# Altium footprint library Copter.PcbLib: 23 footprints (part 2 of 2)
Each footprint in its own frame and in the unit in brackets; x right, y up, seen from the top. Pads: shape width x height; smd on the part's side, far side on the other; paste and mask are expansions set on the pad; w line width, h text height; cw(c..) or ccw(c..) is an arc to the next point about the centre after c.
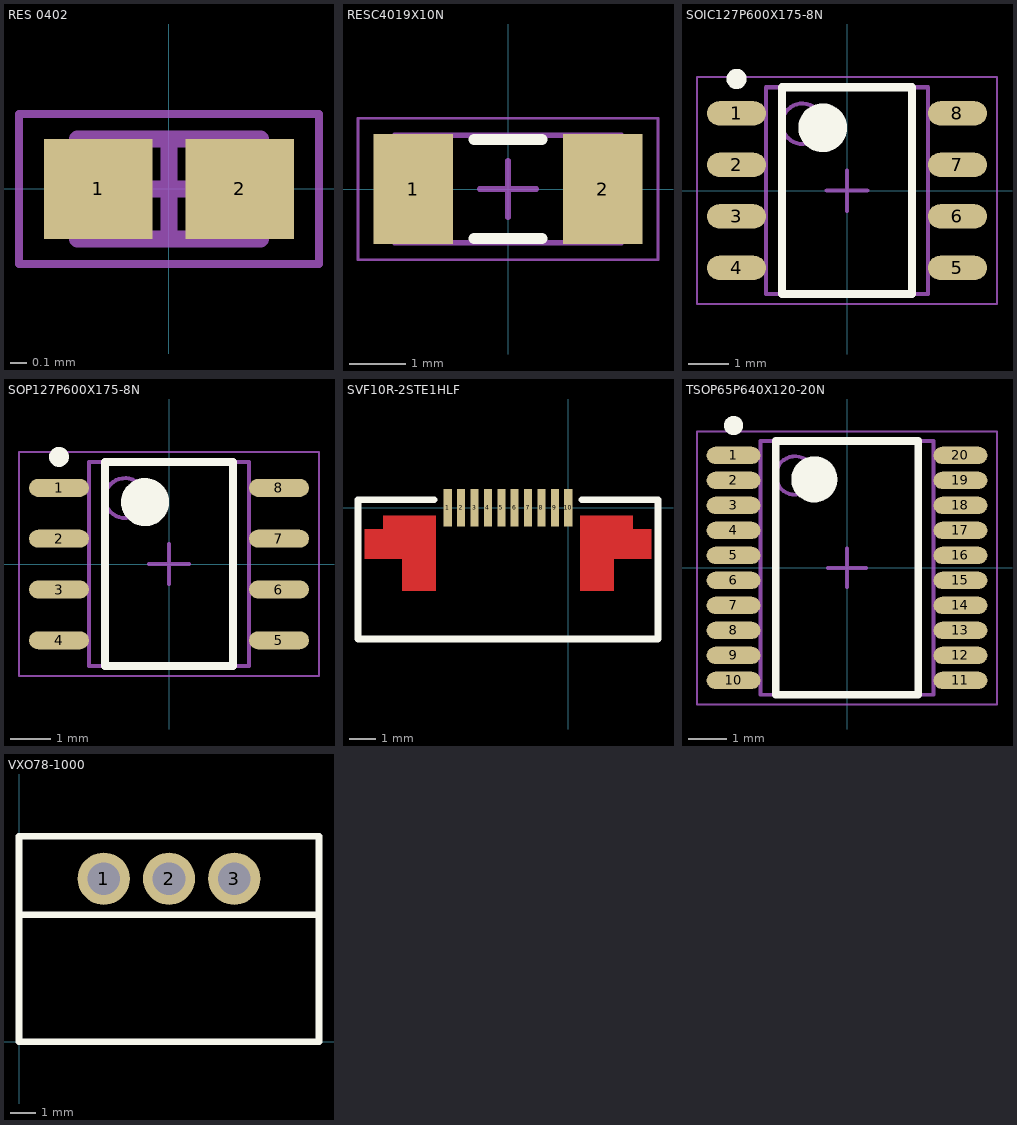
[diagram p1: the footprints below, top view; thin cyan lines are the x and y axes]

## RES 0402 [mm] "Chip Resistor, 2-Leads, Body 1.00x0.50mm, IPC Medium Density"
height 0.4
pads (2):
  rect 0.65x0.6 smd: 1(-0.425,0) 2(0.425,0)
Mechanical 13:
  lines w0.1: -0.55,-0.3 -0.55,0.3 0.55,0.3 0.55,-0.3 -0.55,-0.3
Mechanical 15:
  lines w0.05: -0.9,-0.45 -0.9,0.45 0.9,0.45 0.9,-0.45 -0.9,-0.45
  lines w0.1: -0.3,0 0.3,0 ; 0,-0.3 0,0.3
3D body: height 0.4, standoff 0, extent -0.3,-0.3 0.3,0.3
3D body: height 0.4, standoff 0, extent -0.55,-0.3 -0.3,0.3
3D body: height 0.4, standoff 0, extent 0.3,-0.3 0.55,0.3

## RESC4019X10N [mm] "Chip Resistor, 2-Leads, Body 4.00x1.90mm, IPC Medium Density"
height 1
pads (2):
  rect 1.4x1.95 smd: 1(-1.675,0) 2(1.675,0)
Top Overlay:
  lines w0.2: -0.6,-0.875 0.6,-0.875 ; -0.6,0.875 0.6,0.875
Mechanical 13:
  lines w0.1: -2,-0.95 -2,0.95 2,0.95 2,-0.95 -2,-0.95
Mechanical 15:
  lines w0.05: -2.65,-1.25 -2.65,1.25 2.65,1.25 2.65,-1.25 -2.65,-1.25
  lines w0.1: -0.5,0 0.5,0 ; 0,-0.5 0,0.5
3D body: height 1, standoff 0, extent -1,-0.95 1,0.95
3D body: height 1, standoff 0, extent -2,-0.95 -1,0.95
3D body: height 1, standoff 0, extent 1,-0.95 2,0.95

## SOIC127P600X175-8N [mm] "SOIC, 8-Leads, Body 4.93x3.90mm, Pitch 1.27mm, IPC Medium Density"
height 1.75
pads (8):
  oval 1.45x0.6 smd: 1(-2.725,1.905) 2(-2.725,0.635) 3(-2.725,-0.635) 4(-2.725,-1.905) 5(2.725,-1.905) 6(2.725,-0.635) 7(2.725,0.635) 8(2.725,1.905)
Top Overlay:
  circle w0.6: c-0.6,1.55 r0.3
  circle w0.25: c-2.725,2.755 r0.125
  lines w0.2: -1.6,-2.55 1.6,-2.55 1.6,2.55 -1.6,2.55 -1.6,-2.55
Mechanical 13:
  circle w0.1: c-1.1,1.65 r0.5
  lines w0.1: -2,-2.55 2,-2.55 2,2.55 -2,2.55 -2,-2.55
Mechanical 15:
  lines w0.05: -3.7,-2.8 3.7,-2.8 3.7,2.8 -3.7,2.8 -3.7,-2.8
  lines w0.1: -0.5,0 0.5,0 ; 0,-0.5 0,0.5
3D body: height 1.75, standoff 0.25, extent -2,-2.55 2,2.55

## SOP127P600X175-8N [mm] "SOP, 8-Leads, Body 4.90x3.90mm, Pitch 1.27mm, IPC Medium Density"
height 1.75
pads (8):
  oval 1.5x0.45 smd: 1(-2.75,1.905) 2(-2.75,0.635) 3(-2.75,-0.635) 4(-2.75,-1.905) 5(2.75,-1.905) 6(2.75,-0.635) 7(2.75,0.635) 8(2.75,1.905)
Top Overlay:
  circle w0.6: c-0.6,1.55 r0.3
  circle w0.25: c-2.75,2.68 r0.125
  lines w0.2: -1.6,-2.55 1.6,-2.55 1.6,2.55 -1.6,2.55 -1.6,-2.55
Mechanical 13:
  circle w0.1: c-1.1,1.65 r0.5
  lines w0.1: -2,-2.55 2,-2.55 2,2.55 -2,2.55 -2,-2.55
Mechanical 15:
  lines w0.05: -3.75,-2.8 3.75,-2.8 3.75,2.8 -3.75,2.8 -3.75,-2.8
  lines w0.1: -0.5,0 0.5,0 ; 0,-0.5 0,0.5
3D body: height 1.75, standoff 0.1, extent -2,-2.55 2,2.55

## SVF10R-2STE1HLF [mm]
pads (10):
  rect 0.3x1.4 smd mask+0.05: 1(-4.5,0) 2(-4,0) 3(-3.5,0) 4(-3,0) 5(-2.5,0) 6(-2,0) 7(-1.5,0) 8(-1,0) 9(-0.5,0) 10(0,0)
Top Layer:
  region: -4.95,-3.1 -6.2,-3.1 -6.2,-1.9 -7.6,-1.9 -7.6,-0.8 -6.9,-0.8 -6.9,-0.3 -4.95,-0.3
  region: 0.45,-3.1 1.7,-3.1 1.7,-1.9 3.1,-1.9 3.1,-0.8 2.4,-0.8 2.4,-0.3 0.45,-0.3
Top Overlay:
  region: -3.489,-3.798
  region: -3.299,-4.052
  region: -4.95,-3.1
  region: -4.95,-3.1
  lines w0.254: -5,0.3 -7.85,0.3 -7.85,-4.9 -7.65,-4.9 3.35,-4.9 3.35,0.3 0.5,0.3
Top Solder:
  region: 0.45,-3.1 1.7,-3.1 1.7,-1.9 3.1,-1.9 3.1,-0.8 2.4,-0.8 2.4,-0.3 0.45,-0.3
  region: -4.95,-3.1 -6.2,-3.1 -6.2,-1.9 -7.6,-1.9 -7.6,-0.8 -6.9,-0.8 -6.9,-0.3 -4.95,-0.3
3D body: height 3.25, standoff -3.1, extent -2.25,-1.9 -2.25,-1.9
3D body "ssfv10r_2stlf.stp": height 1.82, standoff -0.05, extent -7.5,-4.6 3,0.3

## TSOP65P640X120-20N [mm] "TSOP, 20-Leads, Body 6.50x4.40mm, Pitch 0.65mm, IPC Medium Density"
height 1.2
pads (20):
  oval 1.4x0.45 smd: 1(-2.95,2.925) 2(-2.95,2.275) 3(-2.95,1.625) 4(-2.95,0.975) 5(-2.95,0.325) 6(-2.95,-0.325) 7(-2.95,-0.975) 8(-2.95,-1.625) 9(-2.95,-2.275) 10(-2.95,-2.925) 11(2.95,-2.925) 12(2.95,-2.275) 13(2.95,-1.625) 14(2.95,-0.975) 15(2.95,-0.325) 16(2.95,0.325) 17(2.95,0.975) 18(2.95,1.625) 19(2.95,2.275) 20(2.95,2.925)
Top Overlay:
  circle w0.25: c-2.95,3.7 r0.125
  circle w0.6: c-0.85,2.3 r0.3
  lines w0.2: -1.85,-3.3 -1.85,3.3 1.85,3.3 1.85,-3.3 -1.85,-3.3
Mechanical 13:
  circle w0.1: c-1.35,2.4 r0.5
  lines w0.1: -2.25,-3.3 -2.25,3.3 2.25,3.3 2.25,-3.3 -2.25,-3.3
Mechanical 15:
  lines w0.05: -3.9,-3.55 -3.9,3.55 3.9,3.55 3.9,-3.55 -3.9,-3.55
  lines w0.1: -0.5,0 0.5,0 ; 0,-0.5 0,0.5
3D body: height 1.2, standoff 0.15, extent -2.25,-3.3 2.25,3.3

## VXO78-1000 [mil]
pads (3):
  round 80 hole 50: 1(130,250) 2(230,250) 3(330,250)
Top Overlay:
  lines w10: 0,195 460,195 ; 0,0 0,315 460,315 460,0 0,0